# EAGLE library part 208658-1081 (library SamacSys_Parts)
HDMI, Displayport & DVI Connectors 0.5mm HDMI Recep RA 19CKT Source: Datasheet <https://www.molex.com/pdm_docs/sd/2086581081_sd.pdf>
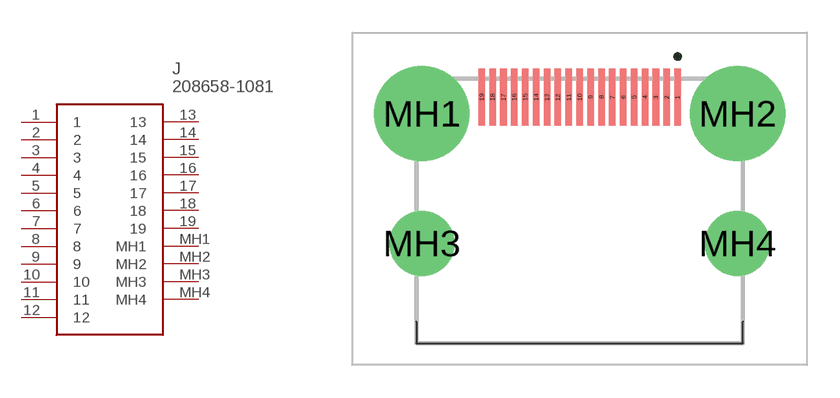
[diagram p19: symbol with the pads of 2086581081; footprint 2086581081]

Designator prefix J

## 208658-1081 (DESCRIPTION: HDMI, Displayport & DVI Connectors 0.5mm HDMI Recep RA 19CKT; HEIGHT: 6.44mm; MANUFACTURER_NAME: Molex; MANUFACTURER_PART_NUMBER: 208658-1081; MOUSER_PART_NUMBER: 538-208658-1081; MOUSER_PRICE-STOCK: https://www.mouser.co.uk/ProductDetail/Molex/208658-1081?qs=wnTfsH77Xs42S8XwiJrhYg%3D%3D)  [2086581081]
1  1
2  2
3  3
4  4
5  5
6  6
7  7
8  8
9  9
10  10
11  11
12  12
13  13
14  14
15  15
16  16
17  17
18  18
19  19
MH1  MH1
MH2  MH2
MH3  MH3
MH4  MH4

## Footprint 2086581081 (pad centres in mm)
208658-1081-4
smd 0.3 x 2.6: 1 4.5,5.235; 2 4,5.235; 3 3.5,5.235; 4 3,5.235; 5 2.5,5.235; 6 2,5.235; 7 1.5,5.235; 8 1,5.235; 9 0.5,5.235; 10 0,5.235; 11 -0.5,5.235; 12 -1,5.235; 13 -1.5,5.235; 14 -2,5.235; 15 -2.5,5.235; 16 -3,5.235; 17 -3.5,5.235; 18 -4,5.235; 19 -4.5,5.235
drill 2.91 pad 4.365: MH1 -7.25,4.475; MH2 7.25,4.475
drill 1.99 pad 2.985: MH3 -7.25,-1.485; MH4 7.25,-1.485